# Altium integrated library Silicon Labs Audio.IntLib: 141 symbols (part 6 of 7)
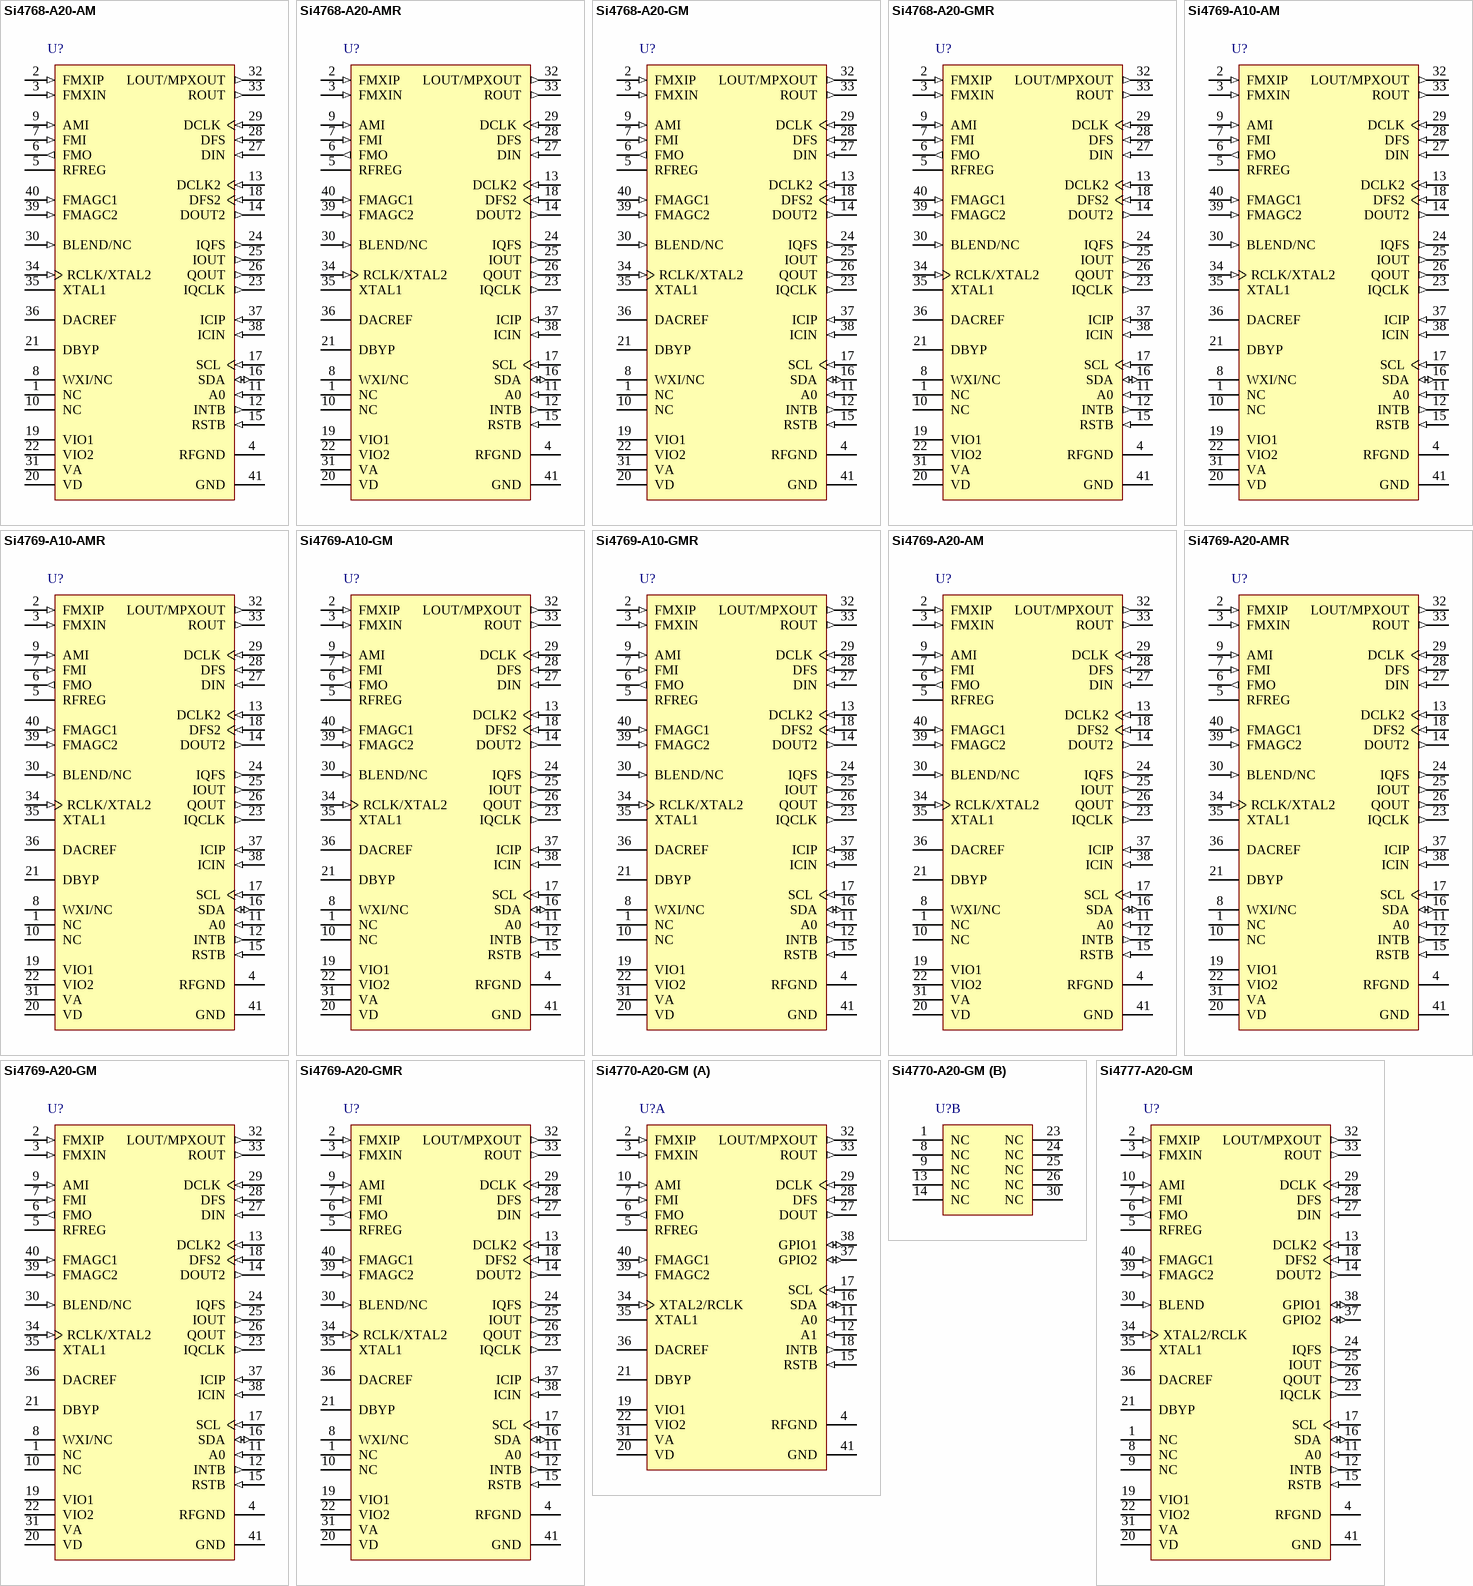
[diagram p12: symbols Si4768-A20-AM to Si4777-A20-GM]

## Si4777-A20-GM
designator U?
High-Performance Consumer Electronics Broadcast Radio Receiver and HD Radio Tuner, -40 to 85 degC, 40-pin QFN, Tray; Manufacturer: Silicon Labs; PartNumber: Si4777-A20-GM; RDS Support: TRUE; Sub-Family: AM/FM, Shortwave, Longwave, Weather Band Receivers; DatasheetVersion: Rev. 0.9; PackageVersion: Rev. 1.3, 01/2012; PackageReference: QFN-40; PackageDescription: 40-Pin Quad-Flat No-Leads Package, Body 6 x 6 mm, Pitch 0.5 mm; Supplier 1: Digi-Key; Supplier Part Number 1: 336-2266-ND; Supplier 2: Mouser; Supplier Part Number 2: 634-SI4777-A20-GM; Mounting Technology: Surface Mount; Code_JEDEC: MO-220; Code_IPC: J-STD-020; ComponentLink1Description: Manufacturer URL; ComponentLink1URL: http://www.silabs.com/; ComponentLink2Description: Datasheet; ComponentLink2URL: http://www.silabs.com/Support Documents/TechnicalDocs/Si4770-77-A20.pdf; ComponentLink3Description: Package Specification; ComponentLink3URL: http://www.silabs.com/Support%20Documents/TechnicalDocs/Si3452.pdf
footprint SLAB-QFN-40-4100x4100TP_A_N (QFN, 40-Leads, Body 6x6mm, Pitch 0.5mm, Thermal Pad 4.1X4.1mm, IPC Medium Density)
footprint SLAB-QFN-40-4100x4100TP_A_L (QFN, 40-Leads, Body 6x6mm, Pitch 0.5mm, Thermal Pad 4.1X4.1mm, IPC High Density)
footprint SLAB-QFN-40-4100x4100TP_A_M (QFN, 40-Leads, Body 6x6mm, Pitch 0.5mm, Thermal Pad 4.1X4.1mm, IPC Low Density)
pins: 1 NC "No connect: Leave floating", 2 FMXIP (in) "Balanced input to FM mixer (positive)", 3 FMXIN (in) "Balanced input to FM mixer (negative)", 4 RFGND (power) "RF Ground", 5 RFREG (power) "FM LNA regulator", 6 FMO (out) "FM LNA output", 7 FMI (in) "FM LNA input", 8 NC "No connect: Leave floating", 9 NC "No connect: Leave floating", 10 AMI (in) "AM single-ended input", 11 A0 (in) "I2C Address 0", 12 INTB (out) "Interrupt active low (Si4777 for IBOC blend mode)", 13 DCLK2 (in) "Digital audio bit clock input (Si4777 for IBOC blend mode)", 14 DOUT2 (out) "Digital audio output (Si4777 for IBOC blend mode)", 15 RSTB (in) "Global Chip Reset", 16 SDA (io) "I2C Data input/output", 17 SCL (in) "I2C clock", 18 DFS2 (in) "Digital audio bit clock input (Si4777 for IBOC blend mode)", 19 VIO1 (power) "Host I/O Supply Voltage (all pads except digital audio and I/Q)", 20 VD (power) "Digital Voltage Supply", 21 DBYP "Digital bypass to Ground", 22 VIO2 (power) "Digital audio and I/Q interface supply voltage", 23 IQCLK (out) "ZIF I/Q bit clock output (Si4777)", 24 IQFS (out) "ZIF I/Q frame sync output Si4777)", 25 IOUT (out) "ZIF I data output (Si4777)", 26 QOUT (out) "ZIF Q data output (Si4777)", 27 DIN (in) "Digital audio data input (Si4777 for IBOC blend mode)", 28 DFS (in) "Digital audio frame sync input", 29 DCLK (in) "Digital audio bit clock input", 30 BLEND (in) "Blend Flag Control", 31 VA (power) "Analog Voltage Supply", 32 LOUT/MPXOUT (out) "Left audio line out / FM MPX output", 33 ROUT (out) "Right audio line out", 34 XTAL2/RCLK (in) "Crystal oscillator input/Reference clock input", 35 XTAL1 "Crystal oscillator output", 36 DACREF "Voltage Reference for analog outputs", 37 GPIO2 (io) "General-purpose input/output", 38 GPIO1 (io) "General-purpose input/output", 39 FMAGC2 (in) "FM automatic gain control 2", 40 FMAGC1 (in) "FM automatic gain control 1", 41 GND (power) "Ground. Reference ground"

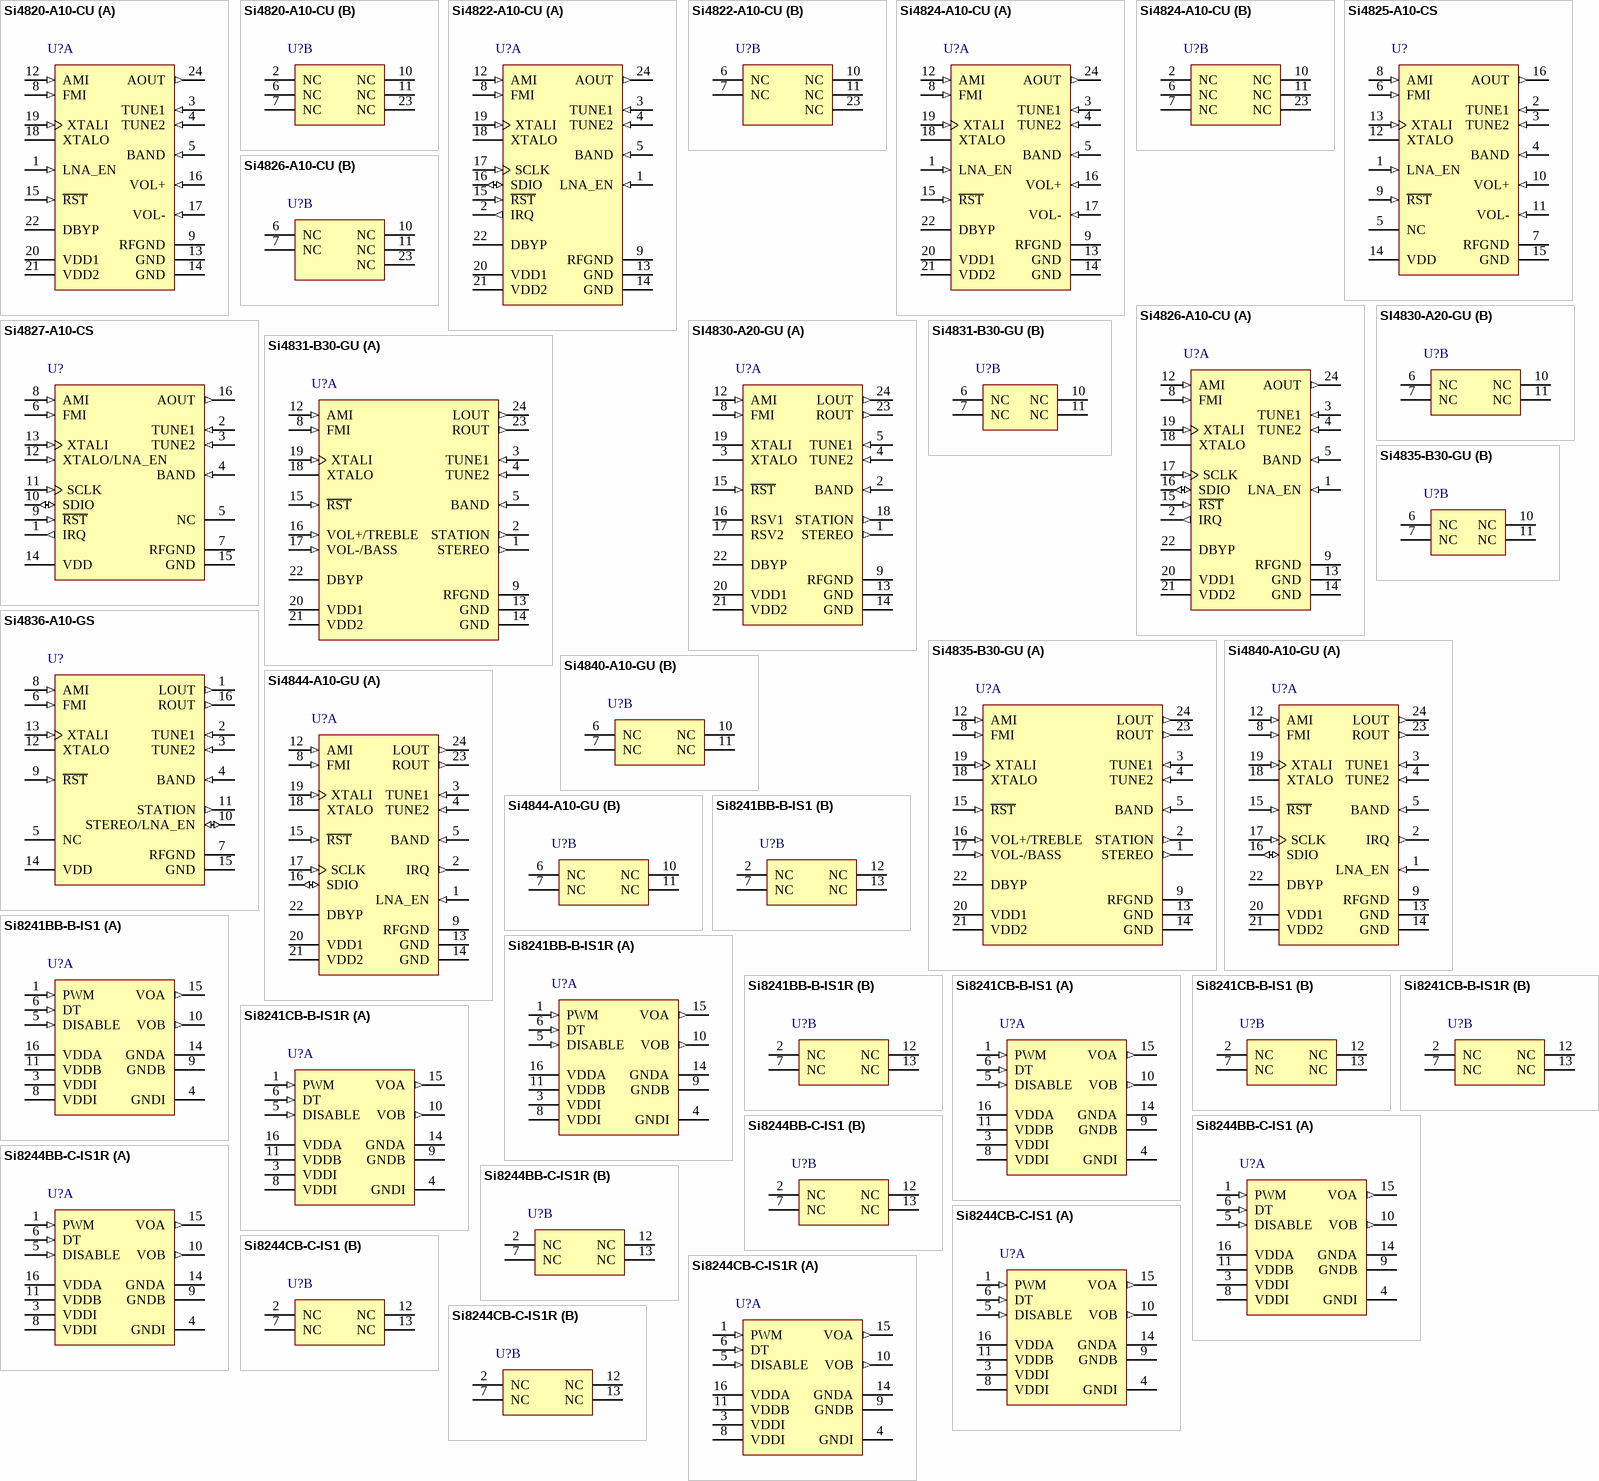
[diagram p7: symbols Si4820-A10-CU to Si8244CB-C-IS1R]

## Si4820-A10-CU
designator U?
Broadcast Mechanical Tuning AM / FM / SW Radio Receiver, 0 to 70 degC, 24-pin SOP, Tray; Manufacturer: Silicon Labs; PartNumber: Si4820-A10-CU; RDS Support: FALSE; Sub-Family: AM/FM, Shortwave, Longwave, Weather Band Receivers; DatasheetVersion: Rev. 1.0; PackageReference: SSOP-24; PackageDescription: 24-Pin Shrink Small-Outline Package, Body 8.65 x 3.9 mm, Pitch 0.635 mm; Supplier 1: Digi-Key; Supplier Part Number 1: SI4820-A10-CU-ND; Supplier 2: Mouser; Supplier Part Number 2: 634-SI4820-A10-CU; Mounting Technology: Surface Mount; Code_JEDEC: MO-137; Code_IPC: J-STD-020; ComponentLink1Description: Manufacturer URL; ComponentLink1URL: http://www.silabs.com/; ComponentLink2Description: Datasheet; ComponentLink2URL: http://www.silabs.com/Support Documents/TechnicalDocs/Si4820-24-A10.pdf; ComponentLink3Description: Package Specification; ComponentLink3URL: http://www.silabs.com/Support%20Documents/TechnicalDocs/Si4704-05-D60.pdf
footprint SLAB-SSOP-24_N (SOP, 24-Leads, Body 8.7x3.9mm, Pitch 0.635mm, IPC Medium Density)
footprint SLAB-SSOP-24_L (SOP, 24-Leads, Body 8.7x3.9mm, Pitch 0.635mm, IPC High Density)
footprint SLAB-SSOP-24_M (SOP, 24-Leads, Body 8.7x3.9mm, Pitch 0.635mm, IPC Low Density)
part A pins: 1 LNA_EN (in) "Enable SW external LNA for Si4824", 3 TUNE1 (in) "Frequency tuning", 4 TUNE2 (in) "Frequency tuning", 5 BAND (in) "Band selection and de-emphasis selection", 8 FMI (in) "FM RF inputs. FMI should be connected to the antenna trace.", 9 RFGND (power) "RF ground. Connect to ground plane on PCB.", 12 AMI (in) "AM RF input. AMI should be connected to the AM antenna.", 13 GND (power) "Ground. Connect to ground plane on PCB.", 14 GND (power) "Ground. Connect to ground plane on PCB.", 15 ~{RST} (in) "Device reset (active low) input", 16 VOL+ (in) "Volume button up", 17 VOL- (in) "Volume button down", 18 XTALO "Crystal oscillator output", 19 XTALI (in) "Crystal oscillator input", 20 VDD1 (power) "Supply voltage. May be connected directly to battery.", 21 VDD2 (power) "Supply voltage. May be connected directly to battery.", 22 DBYP "Dedicated bypass for VDD", 24 AOUT (out) "Audio output"
part B pins: 2 NC "No connect", 6 NC "No connect. Leave floating.", 7 NC "No connect. Leave floating.", 10 NC "Unused. Tie these pins to GND.", 11 NC "Unused. Tie these pins to GND.", 23 NC "No connect. Leave floating"

## Si4822-A10-CU
designator U?
Broadcast Analog Tuning Digital Display AM / FM / SW Radio Receiver, 0 to 70 degC, 24-pin SOP, Tray; Manufacturer: Silicon Labs; PartNumber: Si4822-A10-CU; RDS Support: FALSE; Sub-Family: AM/FM, Shortwave, Longwave, Weather Band Receivers; DatasheetVersion: Rev. 1.0; PackageReference: SSOP-24; PackageDescription: 24-Pin Shrink Small-Outline Package, Body 8.65 x 3.9 mm, Pitch 0.635 mm; Supplier 1: Digi-Key; Supplier Part Number 1: SI4822-A10-CU-ND; Supplier 2: Mouser; Supplier Part Number 2: 634-SI4822-A10-CU; Mounting Technology: Surface Mount; Code_JEDEC: MO-137; Code_IPC: J-STD-020; ComponentLink1Description: Manufacturer URL; ComponentLink1URL: http://www.silabs.com/; ComponentLink2Description: Datasheet; ComponentLink2URL: http://www.silabs.com/Support Documents/TechnicalDocs/Si4822-26-A10.pdf; ComponentLink3Description: Package Specification; ComponentLink3URL: http://www.silabs.com/Support%20Documents/TechnicalDocs/Si4704-05-D60.pdf
footprint SLAB-SSOP-24_N (SOP, 24-Leads, Body 8.7x3.9mm, Pitch 0.635mm, IPC Medium Density)
footprint SLAB-SSOP-24_L (SOP, 24-Leads, Body 8.7x3.9mm, Pitch 0.635mm, IPC High Density)
footprint SLAB-SSOP-24_M (SOP, 24-Leads, Body 8.7x3.9mm, Pitch 0.635mm, IPC Low Density)
part A pins: 1 LNA_EN (in) "Enabling SW external LNA for Si4826", 2 IRQ (out) "Interrupt Request", 3 TUNE1 (in) "Frequency tuning", 4 TUNE2 (in) "Frequency tuning", 5 BAND (in) "Band selection and de-emphasis selection", 8 FMI (in) "FM RF inputs. FMI should be connected to the antenna trace.", 9 RFGND (power) "RF ground. Connect to ground plane on PCB.", 12 AMI (in) "AM RF input. AMI should be connected to the AM antenna.", 13 GND (power) "Ground. Connect to ground plane on PCB.", 14 GND (power) "Ground. Connect to ground plane on PCB.", 15 ~{RST} (in) "Device reset (active low) input", 16 SDIO (io) "Serial data input/output", 17 SCLK (in) "Serial clock input", 18 XTALO "Crystal oscillator output", 19 XTALI (in) "Crystal oscillator input", 20 VDD1 (power) "Supply voltage. May be connected directly to battery.", 21 VDD2 (power) "Supply voltage. May be connected directly to battery.", 22 DBYP "Dedicated bypass for VDD", 24 AOUT (out) "Audio output"
part B pins: 6 NC "No connect. Leave floating.", 7 NC "No connect. Leave floating.", 10 NC "Unused. Tie these pins to GND.", 11 NC "Unused. Tie these pins to GND.", 23 NC "No connect. Leave floating."

## Si4824-A10-CU
designator U?
Broadcast Mechanical Tuning AM / FM / SW Radio Receiver, 0 to 70 degC, 24-pin SOP, Tray; Manufacturer: Silicon Labs; PartNumber: Si4824-A10-CU; RDS Support: FALSE; Sub-Family: AM/FM, Shortwave, Longwave, Weather Band Receivers; DatasheetVersion: Rev. 1.0; PackageReference: SSOP-24; PackageDescription: 24-Pin Shrink Small-Outline Package, Body 8.65 x 3.9 mm, Pitch 0.635 mm; Supplier 1: Digi-Key; Supplier Part Number 1: SI4824-A10-CU-ND; Supplier 2: Mouser; Supplier Part Number 2: 634-SI4824-A10-CU; Mounting Technology: Surface Mount; Code_JEDEC: MO-137; Code_IPC: J-STD-020; ComponentLink1Description: Manufacturer URL; ComponentLink1URL: http://www.silabs.com/; ComponentLink2Description: Datasheet; ComponentLink2URL: http://www.silabs.com/Support Documents/TechnicalDocs/Si4820-24-A10.pdf; ComponentLink3Description: Package Specification; ComponentLink3URL: http://www.silabs.com/Support%20Documents/TechnicalDocs/Si4704-05-D60.pdf
footprint SLAB-SSOP-24_N (SOP, 24-Leads, Body 8.7x3.9mm, Pitch 0.635mm, IPC Medium Density)
footprint SLAB-SSOP-24_L (SOP, 24-Leads, Body 8.7x3.9mm, Pitch 0.635mm, IPC High Density)
footprint SLAB-SSOP-24_M (SOP, 24-Leads, Body 8.7x3.9mm, Pitch 0.635mm, IPC Low Density)
part A pins: 1 LNA_EN (in) "Enable SW external LNA for Si4824", 3 TUNE1 (in) "Frequency tuning", 4 TUNE2 (in) "Frequency tuning", 5 BAND (in) "Band selection and de-emphasis selection", 8 FMI (in) "FM RF inputs. FMI should be connected to the antenna trace.", 9 RFGND (power) "RF ground. Connect to ground plane on PCB.", 12 AMI (in) "AM RF input. AMI should be connected to the AM antenna.", 13 GND (power) "Ground. Connect to ground plane on PCB.", 14 GND (power) "Ground. Connect to ground plane on PCB.", 15 ~{RST} (in) "Device reset (active low) input", 16 VOL+ (in) "Volume button up", 17 VOL- (in) "Volume button down", 18 XTALO "Crystal oscillator output", 19 XTALI (in) "Crystal oscillator input", 20 VDD1 (power) "Supply voltage. May be connected directly to battery.", 21 VDD2 (power) "Supply voltage. May be connected directly to battery.", 22 DBYP "Dedicated bypass for VDD", 24 AOUT (out) "Audio output"
part B pins: 2 NC "No connect", 6 NC "No connect. Leave floating.", 7 NC "No connect. Leave floating.", 10 NC "Unused. Tie these pins to GND.", 11 NC "Unused. Tie these pins to GND.", 23 NC "No connect. Leave floating"

## Si4825-A10-CS
designator U?
Broadcast Mechanical Tuning AM / FM / SW Radio Receiver, 0 to 70 degC, 16-pin SOIC, Tube; Manufacturer: Silicon Labs; PartNumber: Si4825-A10-CS; RDS Support: FALSE; Sub-Family: AM/FM, Shortwave, Longwave, Weather Band Receivers; DatasheetVersion: Rev. 1.0; PackageReference: SOIC-16-NB; PackageDescription: 16-Pin Small-Outline Integrated Circuit, Body 9.9 x 3.9 mm, Pitch 1.27 mm; Supplier 1: Digi-Key; Supplier Part Number 1: SI4825-A10-CS-ND; Supplier 2: Mouser; Supplier Part Number 2: 634-SI4825-A10-CS; Mounting Technology: Surface Mount; Code_JEDEC: MS-012; Code_IPC: J-STD-020; ComponentLink1Description: Manufacturer URL; ComponentLink1URL: http://www.silabs.com/; ComponentLink2Description: Datasheet; ComponentLink2URL: http://www.silabs.com/Support Documents/TechnicalDocs/Si4825-A10.pdf; ComponentLink3Description: Package Specification; ComponentLink3URL: http://www.silabs.com/Support%20Documents/TechnicalDocs/si2401.pdf
footprint SLAB-SOIC-16-NB_N (SOIC, 16-Leads, Body 9.9x3.9mm, Pitch 1.27mm, IPC Medium Density)
footprint SLAB-SOIC-16-NB_L (SOIC, 16-Leads, Body 9.9x3.9mm, Pitch 1.27mm, IPC High Density)
footprint SLAB-SOIC-16-NB_M (SOIC, 16-Leads, Body 9.9x3.9mm, Pitch 1.27mm, IPC Low Density)
pins: 1 LNA_EN (in) "Enable SW external LNA.", 2 TUNE1 (in) "Frequency tuning", 3 TUNE2 (in) "Frequency tuning", 4 BAND (in) "Band selection and de-emphasis selection", 5 NC "No connect. Leave floating.", 6 FMI (in) "FM RF inputs. FMI should be connected to the antenna trace.", 7 RFGND (power) "RF ground. Connect to ground plane on PCB.", 8 AMI (in) "AM RF input. AMI should be connected to the AM antenna.", 9 ~{RST} (in) "Device reset (active low) input", 10 VOL+ (in) "Volume button up", 11 VOL- (in) "Volume button down", 12 XTALO "Crystal oscillator output", 13 XTALI (in) "Crystal oscillator input/external reference clock input", 14 VDD (power) "Supply voltage. May be connected directly to battery.", 15 GND (power) "Ground. Connect to ground plane on PCB.", 16 AOUT (out) "Audio output"

## Si4826-A10-CU
designator U?
Broadcast Analog Tuning Digital Display AM / FM / SW Radio Receiver, 0 to 70 degC, 24-pin SOP, Tray; Manufacturer: Silicon Labs; PartNumber: Si4826-A10-CU; RDS Support: FALSE; Sub-Family: AM/FM, Shortwave, Longwave, Weather Band Receivers; DatasheetVersion: Rev. 1.0; PackageReference: SSOP-24; PackageDescription: 24-Pin Shrink Small-Outline Package, Body 8.65 x 3.9 mm, Pitch 0.635 mm; Supplier 1: Digi-Key; Supplier Part Number 1: SI4826-A10-CU-ND; Supplier 2: Mouser; Supplier Part Number 2: 634-SI4826-A10-CU; Mounting Technology: Surface Mount; Code_JEDEC: MO-137; Code_IPC: J-STD-020; ComponentLink1Description: Manufacturer URL; ComponentLink1URL: http://www.silabs.com/; ComponentLink2Description: Datasheet; ComponentLink2URL: http://www.silabs.com/Support Documents/TechnicalDocs/Si4822-26-A10.pdf; ComponentLink3Description: Package Specification; ComponentLink3URL: http://www.silabs.com/Support%20Documents/TechnicalDocs/Si4704-05-D60.pdf
footprint SLAB-SSOP-24_N (SOP, 24-Leads, Body 8.7x3.9mm, Pitch 0.635mm, IPC Medium Density)
footprint SLAB-SSOP-24_L (SOP, 24-Leads, Body 8.7x3.9mm, Pitch 0.635mm, IPC High Density)
footprint SLAB-SSOP-24_M (SOP, 24-Leads, Body 8.7x3.9mm, Pitch 0.635mm, IPC Low Density)
part A pins: 1 LNA_EN (in) "Enabling SW external LNA for Si4826", 2 IRQ (out) "Interrupt Request", 3 TUNE1 (in) "Frequency tuning", 4 TUNE2 (in) "Frequency tuning", 5 BAND (in) "Band selection and de-emphasis selection", 8 FMI (in) "FM RF inputs. FMI should be connected to the antenna trace.", 9 RFGND (power) "RF ground. Connect to ground plane on PCB.", 12 AMI (in) "AM RF input. AMI should be connected to the AM antenna.", 13 GND (power) "Ground. Connect to ground plane on PCB.", 14 GND (power) "Ground. Connect to ground plane on PCB.", 15 ~{RST} (in) "Device reset (active low) input", 16 SDIO (io) "Serial data input/output", 17 SCLK (in) "Serial clock input", 18 XTALO "Crystal oscillator output", 19 XTALI (in) "Crystal oscillator input", 20 VDD1 (power) "Supply voltage. May be connected directly to battery.", 21 VDD2 (power) "Supply voltage. May be connected directly to battery.", 22 DBYP "Dedicated bypass for VDD", 24 AOUT (out) "Audio output"
part B pins: 6 NC "No connect. Leave floating.", 7 NC "No connect. Leave floating.", 10 NC "Unused. Tie these pins to GND.", 11 NC "Unused. Tie these pins to GND.", 23 NC "No connect. Leave floating."

## Si4827-A10-CS
designator U?
Broadcast Analog Tuning Digital Display AM / FM / SW Radio Receiver, 0 to 70 degC, 16-pin SOIC, Tube; Manufacturer: Silicon Labs; PartNumber: Si4827-A10-CS; RDS Support: FALSE; Sub-Family: AM/FM, Shortwave, Longwave, Weather Band Receivers; DatasheetVersion: Rev. 1.0; PackageReference: SOIC-16-NB; PackageDescription: 16-Pin Small-Outline Integrated Circuit, Body 9.9 x 3.9 mm, Pitch 1.27 mm; Supplier 1: Digi-Key; Supplier Part Number 1: SI4827-A10-CS-ND; Supplier 2: Mouser; Supplier Part Number 2: 634-SI4827-A10-CS; Mounting Technology: Surface Mount; Code_JEDEC: MS-012; Code_IPC: J-STD-020; ComponentLink1Description: Manufacturer URL; ComponentLink1URL: http://www.silabs.com/; ComponentLink2Description: Datasheet; ComponentLink2URL: http://www.silabs.com/Support Documents/TechnicalDocs/Si4827-A10.pdf; ComponentLink3Description: Package Specification; ComponentLink3URL: http://www.silabs.com/Support%20Documents/TechnicalDocs/si2401.pdf
footprint SLAB-SOIC-16-NB_N (SOIC, 16-Leads, Body 9.9x3.9mm, Pitch 1.27mm, IPC Medium Density)
footprint SLAB-SOIC-16-NB_L (SOIC, 16-Leads, Body 9.9x3.9mm, Pitch 1.27mm, IPC High Density)
footprint SLAB-SOIC-16-NB_M (SOIC, 16-Leads, Body 9.9x3.9mm, Pitch 1.27mm, IPC Low Density)
pins: 1 IRQ (out) "Interrupt request.", 2 TUNE1 (in) "Frequency tuning.", 3 TUNE2 (in) "Frequency tuning.", 4 BAND (in) "Band selection and de-emphasis selection.", 5 NC "No connect. Leave floating.", 6 FMI (in) "FM RF inputs. FMI should be connected to the antenna trace.", 7 RFGND (power) "RF ground. Connect to ground plane on PCB.", 8 AMI (in) "AM RF input. AMI should be connected to the AM antenna.", 9 ~{RST} (in) "Device reset (active low) input.", 10 SDIO (io) "Serial data input/output.", 11 SCLK (in) "Serial clock input.", 12 XTALO/LNA_EN (in) "Crystal oscillator output, enable the SW external LNA in SW mode when not used as XTALO.", 13 XTALI (in) "Crystal oscillator input/external reference clock input", 14 VDD (power) "Supply voltage. May be connected directly to battery.", 15 GND (power) "Ground. Connect to ground plane on PCB.", 16 AOUT (out) "Audio output."

## SI4830-A20-GU
designator U?
Broadcast Mechanical Tuning AM / FM Radio Receiver, 24-pin SOP, Tray; Manufacturer: Silicon Labs; PartNumber: SI4830-A20-GU; RDS Support: FALSE; Sub-Family: AM/FM, Shortwave, Longwave, Weather Band Receivers; PackageReference: SSOP-24; PackageDescription: 24-Pin Shrink Small-Outline Package, Body 8.65 x 3.9 mm, Pitch 0.635 mm; Supplier 1: Digi-Key; Supplier Part Number 1: SI4830-A20-GU-ND; Mounting Technology: Surface Mount; Code_JEDEC: MO-137; Code_IPC: J-STD-020; ComponentLink1Description: Manufacturer URL; ComponentLink1URL: http://www.silabs.com/; ComponentLink2Description: Datasheet; ComponentLink2URL: http://www.silabs.com/Support Documents/TechnicalDocs/Si4830-short.pdf; ComponentLink3Description: Package Specification; ComponentLink3URL: http://www.silabs.com/Support%20Documents/TechnicalDocs/Si4704-05-D60.pdf
footprint SLAB-SSOP-24_N (SOP, 24-Leads, Body 8.7x3.9mm, Pitch 0.635mm, IPC Medium Density)
footprint SLAB-SSOP-24_L (SOP, 24-Leads, Body 8.7x3.9mm, Pitch 0.635mm, IPC High Density)
footprint SLAB-SSOP-24_M (SOP, 24-Leads, Body 8.7x3.9mm, Pitch 0.635mm, IPC Low Density)
part A pins: 1 STEREO (out), 2 BAND (in), 3 XTALO, 4 TUNE2 (in), 5 TUNE1 (in), 8 FMI (in), 9 RFGND (power), 12 AMI (in), 13 GND (power), 14 GND (power), 15 ~{RST} (in), 16 RSV1, 17 RSV2, 18 STATION (out), 19 XTALI, 20 VDD1 (power), 21 VDD2 (power), 22 DBYP, 23 ROUT (out), 24 LOUT (out)
part B pins: 6 NC, 7 NC, 10 NC, 11 NC

## Si4831-B30-GU
designator U?
Broadcast Mechanical Tuning AM / FM / SW Radio Receiver, -15 to 85 degC, 24-pin SOP, Tray; Manufacturer: Silicon Labs; PartNumber: Si4831-B30-GU; RDS Support: FALSE; Sub-Family: AM/FM, Shortwave, Longwave, Weather Band Receivers; DatasheetVersion: Rev. 1.0; PackageReference: SSOP-24; PackageDescription: 24-Pin Shrink Small-Outline Package, Body 8.65 x 3.9 mm, Pitch 0.635 mm; Supplier 1: Digi-Key; Supplier Part Number 1: SI4831-B30-GU-ND; Supplier 2: Mouser; Supplier Part Number 2: 634-SI4831-B30-GU; Mounting Technology: Surface Mount; Code_JEDEC: MO-137; Code_IPC: J-STD-020; ComponentLink1Description: Manufacturer URL; ComponentLink1URL: http://www.silabs.com/; ComponentLink2Description: Datasheet; ComponentLink2URL: http://www.silabs.com/Support Documents/TechnicalDocs/Si4831-35-B30.pdf; ComponentLink3Description: Package Specification; ComponentLink3URL: http://www.silabs.com/Support%20Documents/TechnicalDocs/Si4704-05-D60.pdf
footprint SLAB-SSOP-24_N (SOP, 24-Leads, Body 8.7x3.9mm, Pitch 0.635mm, IPC Medium Density)
footprint SLAB-SSOP-24_L (SOP, 24-Leads, Body 8.7x3.9mm, Pitch 0.635mm, IPC High Density)
footprint SLAB-SSOP-24_M (SOP, 24-Leads, Body 8.7x3.9mm, Pitch 0.635mm, IPC Low Density)
part A pins: 1 STEREO (out) "Stereo indicator", 2 STATION (out) "Station indicator", 3 TUNE1 (in) "Frequency tuning", 4 TUNE2 (in) "Frequency tuning", 5 BAND (in) "Band selection and De-emphasis/Stereo separation selection", 8 FMI (in) "FM RF inputs. FMI should be connected to the antenna trace.", 9 RFGND (power) "RF ground. Connect to ground plane on PCB.", 12 AMI (in) "AM RF input. AMI should be connected to the AM antenna.", 13 GND (power) "Ground. Connect to ground plane on PCB.", 14 GND (power) "Ground. Connect to ground plane on PCB.", 15 ~{RST} (in) "Device reset (active low) input", 16 VOL+/TREBLE (in) "Volume button up/Treble", 17 VOL-/BASS (in) "Volume button down/Bass", 18 XTALO "Crystal oscillator output", 19 XTALI (in) "Crystal oscillator input", 20 VDD1 (power) "Supply voltage. May be connected directly to battery.", 21 VDD2 (power) "Supply voltage. May be connected directly to battery.", 22 DBYP "Dedicated bypass for VDD", 23 ROUT (out) "Right audio line output in analog output mode", 24 LOUT (out) "Left audio line output in analog output mode"
part B pins: 6 NC "No connect. Leave floating.", 7 NC "No connect. Leave floating.", 10 NC "Unused. Tie these pins to GND.", 11 NC "Unused. Tie these pins to GND."

## Si4835-B30-GU
designator U?
Broadcast Mechanical Tuning AM / FM / SW Radio Receiver, -15 to 85 degC, 24-pin SOP, Tray; Manufacturer: Silicon Labs; PartNumber: Si4835-B30-GU; RDS Support: FALSE; Sub-Family: AM/FM, Shortwave, Longwave, Weather Band Receivers; DatasheetVersion: Rev. 1.0; PackageReference: SSOP-24; PackageDescription: 24-Pin Shrink Small-Outline Package, Body 8.65 x 3.9 mm, Pitch 0.635 mm; Supplier 1: Digi-Key; Supplier Part Number 1: SI4835-B30-GU-ND; Supplier 2: Mouser; Supplier Part Number 2: 634-SI4835-B30-GU; Mounting Technology: Surface Mount; Code_JEDEC: MO-137; Code_IPC: J-STD-020; ComponentLink1Description: Manufacturer URL; ComponentLink1URL: http://www.silabs.com/; ComponentLink2Description: Datasheet; ComponentLink2URL: http://www.silabs.com/Support Documents/TechnicalDocs/Si4831-35-B30.pdf; ComponentLink3Description: Package Specification; ComponentLink3URL: http://www.silabs.com/Support%20Documents/TechnicalDocs/Si4704-05-D60.pdf
footprint SLAB-SSOP-24_N (SOP, 24-Leads, Body 8.7x3.9mm, Pitch 0.635mm, IPC Medium Density)
footprint SLAB-SSOP-24_L (SOP, 24-Leads, Body 8.7x3.9mm, Pitch 0.635mm, IPC High Density)
footprint SLAB-SSOP-24_M (SOP, 24-Leads, Body 8.7x3.9mm, Pitch 0.635mm, IPC Low Density)
part A pins: 1 STEREO (out) "Stereo indicator", 2 STATION (out) "Station indicator", 3 TUNE1 (in) "Frequency tuning", 4 TUNE2 (in) "Frequency tuning", 5 BAND (in) "Band selection and De-emphasis/Stereo separation selection", 8 FMI (in) "FM RF inputs. FMI should be connected to the antenna trace.", 9 RFGND (power) "RF ground. Connect to ground plane on PCB.", 12 AMI (in) "AM RF input. AMI should be connected to the AM antenna.", 13 GND (power) "Ground. Connect to ground plane on PCB.", 14 GND (power) "Ground. Connect to ground plane on PCB.", 15 ~{RST} (in) "Device reset (active low) input", 16 VOL+/TREBLE (in) "Volume button up/Treble", 17 VOL-/BASS (in) "Volume button down/Bass", 18 XTALO "Crystal oscillator output", 19 XTALI (in) "Crystal oscillator input", 20 VDD1 (power) "Supply voltage. May be connected directly to battery.", 21 VDD2 (power) "Supply voltage. May be connected directly to battery.", 22 DBYP "Dedicated bypass for VDD", 23 ROUT (out) "Right audio line output in analog output mode", 24 LOUT (out) "Left audio line output in analog output mode"
part B pins: 6 NC "No connect. Leave floating.", 7 NC "No connect. Leave floating.", 10 NC "Unused. Tie these pins to GND.", 11 NC "Unused. Tie these pins to GND."

## Si4836-A10-GS
designator U?
Broadcast Mechanical Tuning AM / FM / SW Radio Receiver, -15 to 85 degC, 16-pin SOIC, Tube; Manufacturer: Silicon Labs; PartNumber: Si4836-A10-GS; RDS Support: FALSE; Sub-Family: AM/FM, Shortwave, Longwave, Weather Band Receivers; DatasheetVersion: Rev. 1.0; PackageReference: SOIC-16-NB; PackageDescription: 16-Pin Small-Outline Integrated Circuit, Body 9.9 x 3.9 mm, Pitch 1.27 mm; Supplier 1: Digi-Key; Supplier Part Number 1: SI4836-A10-GS-ND; Supplier 2: Mouser; Supplier Part Number 2: 634-SI4836-A10-GS; Mounting Technology: Surface Mount; Code_JEDEC: MS-012; Code_IPC: J-STD-020; ComponentLink1Description: Manufacturer URL; ComponentLink1URL: http://www.silabs.com/; ComponentLink2Description: Datasheet; ComponentLink2URL: http://www.silabs.com/Support Documents/TechnicalDocs/Si4836-A10.pdf; ComponentLink3Description: Package Specification; ComponentLink3URL: http://www.silabs.com/Support%20Documents/TechnicalDocs/si2401.pdf
footprint SLAB-SOIC-16-NB_N (SOIC, 16-Leads, Body 9.9x3.9mm, Pitch 1.27mm, IPC Medium Density)
footprint SLAB-SOIC-16-NB_L (SOIC, 16-Leads, Body 9.9x3.9mm, Pitch 1.27mm, IPC High Density)
footprint SLAB-SOIC-16-NB_M (SOIC, 16-Leads, Body 9.9x3.9mm, Pitch 1.27mm, IPC Low Density)
pins: 1 LOUT (out) "Left audio output", 2 TUNE1 (in) "Frequency tuning", 3 TUNE2 (in) "Frequency tuning", 4 BAND (in) "Band selection and de-emphasis selection", 5 NC "No connect. Leave floating.", 6 FMI (in) "FM RF inputs. FMI should be connected to the antenna trace.", 7 RFGND (power) "RF ground. Connect to ground plane on PCB.", 8 AMI (in) "AM RF input. AMI should be connected to the AM antenna.", 9 ~{RST} (in) "Device reset (active low) input", 10 STEREO/LNA_EN (io) "Stereo indicator, enable the SW external LNA in SW mode.", 11 STATION (out) "Station indicator", 12 XTALO "Crystal oscillator output", 13 XTALI (in) "Crystal oscillator input/external reference clock input", 14 VDD (power) "Supply voltage. May be connected directly to battery.", 15 GND (power) "Ground. Connect to ground plane on PCB.", 16 ROUT (out) "Right audio output"

## Si4840-A10-GU
designator U?
Broadcast Analog Tuning Digital Display AM / FM / SW Radio Receiver, -15 to 85 degC, 24-pin SOP, Tube; Manufacturer: Silicon Labs; PartNumber: Si4840-A10-GU; RDS Support: FALSE; Sub-Family: AM/FM, Shortwave, Longwave, Weather Band Receivers; DatasheetVersion: Rev. 1.0; PackageReference: SSOP-24; PackageDescription: 24-Pin Shrink Small-Outline Package, Body 8.65 x 3.9 mm, Pitch 0.635 mm; Supplier 1: Digi-Key; Supplier Part Number 1: 336-2153-ND; Supplier 2: Mouser; Supplier Part Number 2: 634-SI4840-A10-GU; Mounting Technology: Surface Mount; Code_JEDEC: MO-137; Code_IPC: J-STD-020; ComponentLink1Description: Manufacturer URL; ComponentLink1URL: http://www.silabs.com/; ComponentLink2Description: Datasheet; ComponentLink2URL: http://www.silabs.com/Support Documents/TechnicalDocs/Si4840-44-A10.pdf; ComponentLink3Description: Package Specification; ComponentLink3URL: http://www.silabs.com/Support%20Documents/TechnicalDocs/Si4704-05-D60.pdf
footprint SLAB-SSOP-24_N (SOP, 24-Leads, Body 8.7x3.9mm, Pitch 0.635mm, IPC Medium Density)
footprint SLAB-SSOP-24_L (SOP, 24-Leads, Body 8.7x3.9mm, Pitch 0.635mm, IPC High Density)
footprint SLAB-SSOP-24_M (SOP, 24-Leads, Body 8.7x3.9mm, Pitch 0.635mm, IPC Low Density)
part A pins: 1 LNA_EN (in) "Enabling SW external LNA", 2 IRQ (out) "Interrupt Request", 3 TUNE1 (in) "Frequency tuning", 4 TUNE2 (in) "Frequency tuning", 5 BAND (in) "Band selection and De-emphasis/Stereo separation selection", 8 FMI (in) "FM RF inputs. FMI should be connected to the antenna trace.", 9 RFGND (power) "RF ground. Connect to ground plane on PCB.", 12 AMI (in) "AM RF input. AMI should be connected to the AM antenna.", 13 GND (power) "Ground. Connect to ground plane on PCB.", 14 GND (power) "Ground. Connect to ground plane on PCB.", 15 ~{RST} (in) "Device reset (active low) input", 16 SDIO (io) "Serial data input/output", 17 SCLK (in) "Serial clock input", 18 XTALO "Crystal oscillator output", 19 XTALI (in) "Crystal oscillator input", 20 VDD1 (power) "Supply voltage. May be connected directly to battery.", 21 VDD2 (power) "Supply voltage. May be connected directly to battery.", 22 DBYP "Dedicated bypass for VDD", 23 ROUT (out) "Right audio line output in analog output mode", 24 LOUT (out) "Left audio line output in analog output mode"
part B pins: 6 NC "No connect. Leave floating.", 7 NC "No connect. Leave floating.", 10 NC "Unused. Tie these pins to GND.", 11 NC "Unused. Tie these pins to GND."

## Si4844-A10-GU
designator U?
Broadcast Analog Tuning Digital Display AM / FM / SW Radio Receiver, -15 to 85 degC, 24-pin SOP, Tray; Manufacturer: Silicon Labs; PartNumber: Si4844-A10-GU; RDS Support: FALSE; Sub-Family: AM/FM, Shortwave, Longwave, Weather Band Receivers; DatasheetVersion: Rev. 1.0; PackageReference: SSOP-24; PackageDescription: 24-Pin Shrink Small-Outline Package, Body 8.65 x 3.9 mm, Pitch 0.635 mm; Supplier 1: Digi-Key; Supplier Part Number 1: 336-2151-ND; Supplier 2: Mouser; Supplier Part Number 2: 634-SI4844-A10-GU; Mounting Technology: Surface Mount; Code_JEDEC: MO-137; Code_IPC: J-STD-020; ComponentLink1Description: Manufacturer URL; ComponentLink1URL: http://www.silabs.com/; ComponentLink2Description: Datasheet; ComponentLink2URL: http://www.silabs.com/Support Documents/TechnicalDocs/Si4840-44-A10.pdf; ComponentLink3Description: Package Specification; ComponentLink3URL: http://www.silabs.com/Support%20Documents/TechnicalDocs/Si4704-05-D60.pdf
footprint SLAB-SSOP-24_N (SOP, 24-Leads, Body 8.7x3.9mm, Pitch 0.635mm, IPC Medium Density)
footprint SLAB-SSOP-24_L (SOP, 24-Leads, Body 8.7x3.9mm, Pitch 0.635mm, IPC High Density)
footprint SLAB-SSOP-24_M (SOP, 24-Leads, Body 8.7x3.9mm, Pitch 0.635mm, IPC Low Density)
part A pins: 1 LNA_EN (in) "Enabling SW external LNA", 2 IRQ (out) "Interrupt Request", 3 TUNE1 (in) "Frequency tuning", 4 TUNE2 (in) "Frequency tuning", 5 BAND (in) "Band selection and De-emphasis/Stereo separation selection", 8 FMI (in) "FM RF inputs. FMI should be connected to the antenna trace.", 9 RFGND (power) "RF ground. Connect to ground plane on PCB.", 12 AMI (in) "AM RF input. AMI should be connected to the AM antenna.", 13 GND (power) "Ground. Connect to ground plane on PCB.", 14 GND (power) "Ground. Connect to ground plane on PCB.", 15 ~{RST} (in) "Device reset (active low) input", 16 SDIO (io) "Serial data input/output", 17 SCLK (in) "Serial clock input", 18 XTALO "Crystal oscillator output", 19 XTALI (in) "Crystal oscillator input", 20 VDD1 (power) "Supply voltage. May be connected directly to battery.", 21 VDD2 (power) "Supply voltage. May be connected directly to battery.", 22 DBYP "Dedicated bypass for VDD", 23 ROUT (out) "Right audio line output in analog output mode", 24 LOUT (out) "Left audio line output in analog output mode"
part B pins: 6 NC "No connect. Leave floating.", 7 NC "No connect. Leave floating.", 10 NC "Unused. Tie these pins to GND.", 11 NC "Unused. Tie these pins to GND."

## Si8241BB-B-IS1
designator U?
Class D Audio Driver with Precision Dead-Time Generator, -40 to 125 degC, 16-pin SOIC, Tube; Manufacturer: Silicon Labs; PartNumber: Si8241BB-B-IS1; Drive Strength: 0.5 A; Input Type: PWM; Isolation Rating: 2.5 kV rms; Outputs: High Side / Low Side; UVLO Voltage: 8 V; Sub-Family: Class D Audio Drivers; DatasheetVersion: Rev. 0.3; PackageReference: SOIC-16-NB; PackageDescription: 16-Pin Small-Outline Integrated Circuit, Body 9.9 x 3.9 mm, Pitch 1.27 mm; Supplier 1: Digi-Key; Supplier Part Number 1: 336-1999-5-ND; Supplier 2: Mouser; Supplier Part Number 2: 634-SI8241BB-B-IS1; Packing: Tube; Mounting Technology: Surface Mount; Code_JEDEC: MS-012; Code_IPC: J-STD-020; ComponentLink1Description: Manufacturer URL; ComponentLink1URL: http://www.silabs.com/; ComponentLink2Description: Datasheet; ComponentLink2URL: http://www.silabs.com/Support Documents/TechnicalDocs/Si824x.pdf; ComponentLink3Description: Package Specification; ComponentLink3URL: http://www.silabs.com/Support%20Documents/TechnicalDocs/si2401.pdf
footprint SLAB-SOIC-16-NB_N (SOIC, 16-Leads, Body 9.9x3.9mm, Pitch 1.27mm, IPC Medium Density)
footprint SLAB-SOIC-16-NB_L (SOIC, 16-Leads, Body 9.9x3.9mm, Pitch 1.27mm, IPC High Density)
footprint SLAB-SOIC-16-NB_M (SOIC, 16-Leads, Body 9.9x3.9mm, Pitch 1.27mm, IPC Low Density)
part A pins: 1 PWM (in) "PWM input.", 3 VDDI (power) "Input-side power supply terminal; connect to a source of 4.5 to 5.5 V.", 4 GNDI (power) "Input-side ground terminal.", 5 DISABLE (in) "Device Disable. When high, this input unconditionally drives outputs VOA, VOB LOW. It is strongly recommended that this input be connected to external logic level to avoid erroneous operation due to capacitive noise coupling.", 6 DT (in) "Dead time programming input. The value of the resistor connected from DT to ground sets the dead time between output transitions of VOA and VOB. Defaults to 1 ns dead time when connected to VDDI or left open", 8 VDDI (power) "Input-side power supply terminal; connect to a source of 4.5 to 5.5 V.", 9 GNDB (power) "Ground terminal for Driver B.", 10 VOB (out) "Driver B output (low-side driver).", 11 VDDB (power) "Driver B power supply voltage terminal; connect to a source of 6.5 to 24 V.", 14 GNDA (power) "Ground terminal for Driver A.", 15 VOA (out) "Driver A output (high-side driver).", 16 VDDA (power) "Driver A power supply voltage terminal; connect to a source of 6.5 to 24 V."
part B pins: 2 NC "No connection.", 7 NC "No connection.", 12 NC "No connection.", 13 NC "No connection."

## Si8241BB-B-IS1R
designator U?
Class D Audio Driver with Precision Dead-Time Generator, -40 to 125 degC, 16-pin SOIC, Tape and Reel; Manufacturer: Silicon Labs; PartNumber: Si8241BB-B-IS1R; Drive Strength: 0.5 A; Input Type: PWM; Isolation Rating: 2.5 kV rms; Outputs: High Side / Low Side; UVLO Voltage: 8 V; Sub-Family: Class D Audio Drivers; DatasheetVersion: Rev. 0.3; PackageReference: SOIC-16-NB; PackageDescription: 16-Pin Small-Outline Integrated Circuit, Body 9.9 x 3.9 mm, Pitch 1.27 mm; Supplier 1: Digi-Key; Supplier Part Number 1: SI8241BB-B-IS1R-ND; Supplier 2: Mouser; Supplier Part Number 2: 634-SI8241BB-B-IS1R; Packing: Tape and Reel; Mounting Technology: Surface Mount; Code_JEDEC: MS-012; Code_IPC: J-STD-020; ComponentLink1Description: Manufacturer URL; ComponentLink1URL: http://www.silabs.com/; ComponentLink2Description: Datasheet; ComponentLink2URL: http://www.silabs.com/Support Documents/TechnicalDocs/Si824x.pdf; ComponentLink3Description: Package Specification; ComponentLink3URL: http://www.silabs.com/Support%20Documents/TechnicalDocs/si2401.pdf
footprint SLAB-SOIC-16-NB_N (SOIC, 16-Leads, Body 9.9x3.9mm, Pitch 1.27mm, IPC Medium Density)
footprint SLAB-SOIC-16-NB_L (SOIC, 16-Leads, Body 9.9x3.9mm, Pitch 1.27mm, IPC High Density)
footprint SLAB-SOIC-16-NB_M (SOIC, 16-Leads, Body 9.9x3.9mm, Pitch 1.27mm, IPC Low Density)
part A pins: 1 PWM (in) "PWM input.", 3 VDDI (power) "Input-side power supply terminal; connect to a source of 4.5 to 5.5 V.", 4 GNDI (power) "Input-side ground terminal.", 5 DISABLE (in) "Device Disable. When high, this input unconditionally drives outputs VOA, VOB LOW. It is strongly recommended that this input be connected to external logic level to avoid erroneous operation due to capacitive noise coupling.", 6 DT (in) "Dead time programming input. The value of the resistor connected from DT to ground sets the dead time between output transitions of VOA and VOB. Defaults to 1 ns dead time when connected to VDDI or left open", 8 VDDI (power) "Input-side power supply terminal; connect to a source of 4.5 to 5.5 V.", 9 GNDB (power) "Ground terminal for Driver B.", 10 VOB (out) "Driver B output (low-side driver).", 11 VDDB (power) "Driver B power supply voltage terminal; connect to a source of 6.5 to 24 V.", 14 GNDA (power) "Ground terminal for Driver A.", 15 VOA (out) "Driver A output (high-side driver).", 16 VDDA (power) "Driver A power supply voltage terminal; connect to a source of 6.5 to 24 V."
part B pins: 2 NC "No connection.", 7 NC "No connection.", 12 NC "No connection.", 13 NC "No connection."

## Si8241CB-B-IS1
designator U?
Class D Audio Driver with Precision Dead-Time Generator, -40 to 125 degC, 16-pin SOIC, Tube; Manufacturer: Silicon Labs; PartNumber: Si8241CB-B-IS1; Drive Strength: 0.5 A; Input Type: PWM; Isolation Rating: 2.5 kV rms; Outputs: High Side / Low Side; UVLO Voltage: 10 V; Sub-Family: Class D Audio Drivers; DatasheetVersion: Rev. 0.3; PackageReference: SOIC-16-NB; PackageDescription: 16-Pin Small-Outline Integrated Circuit, Body 9.9 x 3.9 mm, Pitch 1.27 mm; Supplier 1: Digi-Key; Supplier Part Number 1: 336-1998-5-ND; Supplier 2: Mouser; Supplier Part Number 2: 634-SI8241CB-B-IS1; Packing: Tube; Mounting Technology: Surface Mount; Code_JEDEC: MS-012; Code_IPC: J-STD-020; ComponentLink1Description: Manufacturer URL; ComponentLink1URL: http://www.silabs.com/; ComponentLink2Description: Datasheet; ComponentLink2URL: http://www.silabs.com/Support Documents/TechnicalDocs/Si824x.pdf; ComponentLink3Description: Package Specification; ComponentLink3URL: http://www.silabs.com/Support%20Documents/TechnicalDocs/si2401.pdf
footprint SLAB-SOIC-16-NB_N (SOIC, 16-Leads, Body 9.9x3.9mm, Pitch 1.27mm, IPC Medium Density)
footprint SLAB-SOIC-16-NB_L (SOIC, 16-Leads, Body 9.9x3.9mm, Pitch 1.27mm, IPC High Density)
footprint SLAB-SOIC-16-NB_M (SOIC, 16-Leads, Body 9.9x3.9mm, Pitch 1.27mm, IPC Low Density)
part A pins: 1 PWM (in) "PWM input.", 3 VDDI (power) "Input-side power supply terminal; connect to a source of 4.5 to 5.5 V.", 4 GNDI (power) "Input-side ground terminal.", 5 DISABLE (in) "Device Disable. When high, this input unconditionally drives outputs VOA, VOB LOW. It is strongly recommended that this input be connected to external logic level to avoid erroneous operation due to capacitive noise coupling.", 6 DT (in) "Dead time programming input. The value of the resistor connected from DT to ground sets the dead time between output transitions of VOA and VOB. Defaults to 1 ns dead time when connected to VDDI or left open", 8 VDDI (power) "Input-side power supply terminal; connect to a source of 4.5 to 5.5 V.", 9 GNDB (power) "Ground terminal for Driver B.", 10 VOB (out) "Driver B output (low-side driver).", 11 VDDB (power) "Driver B power supply voltage terminal; connect to a source of 6.5 to 24 V.", 14 GNDA (power) "Ground terminal for Driver A.", 15 VOA (out) "Driver A output (high-side driver).", 16 VDDA (power) "Driver A power supply voltage terminal; connect to a source of 6.5 to 24 V."
part B pins: 2 NC "No connection.", 7 NC "No connection.", 12 NC "No connection.", 13 NC "No connection."

## Si8241CB-B-IS1R
designator U?
Class D Audio Driver with Precision Dead-Time Generator, -40 to 125 degC, 16-pin SOIC, Tape and Reel; Manufacturer: Silicon Labs; PartNumber: Si8241CB-B-IS1R; Drive Strength: 0.5 A; Input Type: PWM; Isolation Rating: 2.5 kV rms; Outputs: High Side / Low Side; UVLO Voltage: 10 V; Sub-Family: Class D Audio Drivers; DatasheetVersion: Rev. 0.3; PackageReference: SOIC-16-NB; PackageDescription: 16-Pin Small-Outline Integrated Circuit, Body 9.9 x 3.9 mm, Pitch 1.27 mm; Supplier 1: Digi-Key; Supplier Part Number 1: SI8241CB-B-IS1R-ND; Supplier 2: Mouser; Supplier Part Number 2: 634-SI8241CB-B-IS1R; Packing: Tape and Reel; Mounting Technology: Surface Mount; Code_JEDEC: MS-012; Code_IPC: J-STD-020; ComponentLink1Description: Manufacturer URL; ComponentLink1URL: http://www.silabs.com/; ComponentLink2Description: Datasheet; ComponentLink2URL: http://www.silabs.com/Support Documents/TechnicalDocs/Si824x.pdf; ComponentLink3Description: Package Specification; ComponentLink3URL: http://www.silabs.com/Support%20Documents/TechnicalDocs/si2401.pdf
footprint SLAB-SOIC-16-NB_N (SOIC, 16-Leads, Body 9.9x3.9mm, Pitch 1.27mm, IPC Medium Density)
footprint SLAB-SOIC-16-NB_L (SOIC, 16-Leads, Body 9.9x3.9mm, Pitch 1.27mm, IPC High Density)
footprint SLAB-SOIC-16-NB_M (SOIC, 16-Leads, Body 9.9x3.9mm, Pitch 1.27mm, IPC Low Density)
part A pins: 1 PWM (in) "PWM input.", 3 VDDI (power) "Input-side power supply terminal; connect to a source of 4.5 to 5.5 V.", 4 GNDI (power) "Input-side ground terminal.", 5 DISABLE (in) "Device Disable. When high, this input unconditionally drives outputs VOA, VOB LOW. It is strongly recommended that this input be connected to external logic level to avoid erroneous operation due to capacitive noise coupling.", 6 DT (in) "Dead time programming input. The value of the resistor connected from DT to ground sets the dead time between output transitions of VOA and VOB. Defaults to 1 ns dead time when connected to VDDI or left open", 8 VDDI (power) "Input-side power supply terminal; connect to a source of 4.5 to 5.5 V.", 9 GNDB (power) "Ground terminal for Driver B.", 10 VOB (out) "Driver B output (low-side driver).", 11 VDDB (power) "Driver B power supply voltage terminal; connect to a source of 6.5 to 24 V.", 14 GNDA (power) "Ground terminal for Driver A.", 15 VOA (out) "Driver A output (high-side driver).", 16 VDDA (power) "Driver A power supply voltage terminal; connect to a source of 6.5 to 24 V."
part B pins: 2 NC "No connection.", 7 NC "No connection.", 12 NC "No connection.", 13 NC "No connection."

## Si8244BB-C-IS1
designator U?
Class D Audio Driver with Precision Dead-Time Generator, -40 to 125 degC, 16-pin SOIC, Tube; Manufacturer: Silicon Labs; PartNumber: Si8244BB-C-IS1; Drive Strength: 4 A; Input Type: PWM; Isolation Rating: 2.5 kV rms; Outputs: High Side / Low Side; UVLO Voltage: 8 V; Sub-Family: Class D Audio Drivers; DatasheetVersion: Rev. 0.3; PackageReference: SOIC-16-NB; PackageDescription: 16-Pin Small-Outline Integrated Circuit, Body 9.9 x 3.9 mm, Pitch 1.27 mm; Supplier 1: Digi-Key; Supplier Part Number 1: 336-2001-5-ND; Supplier 2: Mouser; Supplier Part Number 2: 634-SI8244BB-C-IS1; Packing: Tube; Mounting Technology: Surface Mount; Code_JEDEC: MS-012; Code_IPC: J-STD-020; ComponentLink1Description: Manufacturer URL; ComponentLink1URL: http://www.silabs.com/; ComponentLink2Description: Datasheet; ComponentLink2URL: http://www.silabs.com/Support Documents/TechnicalDocs/Si824x.pdf; ComponentLink3Description: Package Specification; ComponentLink3URL: http://www.silabs.com/Support%20Documents/TechnicalDocs/si2401.pdf
footprint SLAB-SOIC-16-NB_N (SOIC, 16-Leads, Body 9.9x3.9mm, Pitch 1.27mm, IPC Medium Density)
footprint SLAB-SOIC-16-NB_L (SOIC, 16-Leads, Body 9.9x3.9mm, Pitch 1.27mm, IPC High Density)
footprint SLAB-SOIC-16-NB_M (SOIC, 16-Leads, Body 9.9x3.9mm, Pitch 1.27mm, IPC Low Density)
part A pins: 1 PWM (in) "PWM input.", 3 VDDI (power) "Input-side power supply terminal; connect to a source of 4.5 to 5.5 V.", 4 GNDI (power) "Input-side ground terminal.", 5 DISABLE (in) "Device Disable. When high, this input unconditionally drives outputs VOA, VOB LOW. It is strongly recommended that this input be connected to external logic level to avoid erroneous operation due to capacitive noise coupling.", 6 DT (in) "Dead time programming input. The value of the resistor connected from DT to ground sets the dead time between output transitions of VOA and VOB. Defaults to 1 ns dead time when connected to VDDI or left open", 8 VDDI (power) "Input-side power supply terminal; connect to a source of 4.5 to 5.5 V.", 9 GNDB (power) "Ground terminal for Driver B.", 10 VOB (out) "Driver B output (low-side driver).", 11 VDDB (power) "Driver B power supply voltage terminal; connect to a source of 6.5 to 24 V.", 14 GNDA (power) "Ground terminal for Driver A.", 15 VOA (out) "Driver A output (high-side driver).", 16 VDDA (power) "Driver A power supply voltage terminal; connect to a source of 6.5 to 24 V."
part B pins: 2 NC "No connection.", 7 NC "No connection.", 12 NC "No connection.", 13 NC "No connection."

## Si8244BB-C-IS1R
designator U?
Class D Audio Driver with Precision Dead-Time Generator, -40 to 125 degC, 16-pin SOIC, Tape and Reel; Manufacturer: Silicon Labs; PartNumber: Si8244BB-C-IS1R; Drive Strength: 4 A; Input Type: PWM; Isolation Rating: 2.5 kV rms; Outputs: High Side / Low Side; UVLO Voltage: 8 V; Sub-Family: Class D Audio Drivers; DatasheetVersion: Rev. 0.3; PackageReference: SOIC-16-NB; PackageDescription: 16-Pin Small-Outline Integrated Circuit, Body 9.9 x 3.9 mm, Pitch 1.27 mm; Supplier 1: Digi-Key; Supplier Part Number 1: SI8244BB-C-IS1R-ND; Supplier 2: Mouser; Supplier Part Number 2: 634-SI8244BB-C-IS1R; Packing: Tape and Reel; Mounting Technology: Surface Mount; Code_JEDEC: MS-012; Code_IPC: J-STD-020; ComponentLink1Description: Manufacturer URL; ComponentLink1URL: http://www.silabs.com/; ComponentLink2Description: Datasheet; ComponentLink2URL: http://www.silabs.com/Support Documents/TechnicalDocs/Si824x.pdf; ComponentLink3Description: Package Specification; ComponentLink3URL: http://www.silabs.com/Support%20Documents/TechnicalDocs/si2401.pdf
footprint SLAB-SOIC-16-NB_N (SOIC, 16-Leads, Body 9.9x3.9mm, Pitch 1.27mm, IPC Medium Density)
footprint SLAB-SOIC-16-NB_L (SOIC, 16-Leads, Body 9.9x3.9mm, Pitch 1.27mm, IPC High Density)
footprint SLAB-SOIC-16-NB_M (SOIC, 16-Leads, Body 9.9x3.9mm, Pitch 1.27mm, IPC Low Density)
part A pins: 1 PWM (in) "PWM input.", 3 VDDI (power) "Input-side power supply terminal; connect to a source of 4.5 to 5.5 V.", 4 GNDI (power) "Input-side ground terminal.", 5 DISABLE (in) "Device Disable. When high, this input unconditionally drives outputs VOA, VOB LOW. It is strongly recommended that this input be connected to external logic level to avoid erroneous operation due to capacitive noise coupling.", 6 DT (in) "Dead time programming input. The value of the resistor connected from DT to ground sets the dead time between output transitions of VOA and VOB. Defaults to 1 ns dead time when connected to VDDI or left open", 8 VDDI (power) "Input-side power supply terminal; connect to a source of 4.5 to 5.5 V.", 9 GNDB (power) "Ground terminal for Driver B.", 10 VOB (out) "Driver B output (low-side driver).", 11 VDDB (power) "Driver B power supply voltage terminal; connect to a source of 6.5 to 24 V.", 14 GNDA (power) "Ground terminal for Driver A.", 15 VOA (out) "Driver A output (high-side driver).", 16 VDDA (power) "Driver A power supply voltage terminal; connect to a source of 6.5 to 24 V."
part B pins: 2 NC "No connection.", 7 NC "No connection.", 12 NC "No connection.", 13 NC "No connection."

## Si8244CB-C-IS1
designator U?
Class D Audio Driver with Precision Dead-Time Generator, -40 to 125 degC, 16-pin SOIC, Tube; Manufacturer: Silicon Labs; PartNumber: Si8244CB-C-IS1; Drive Strength: 4 A; Input Type: PWM; Isolation Rating: 2.5 kV rms; Outputs: High Side / Low Side; UVLO Voltage: 10 V; Sub-Family: Class D Audio Drivers; DatasheetVersion: Rev. 0.3; PackageReference: SOIC-16-NB; PackageDescription: 16-Pin Small-Outline Integrated Circuit, Body 9.9 x 3.9 mm, Pitch 1.27 mm; Supplier 1: Digi-Key; Supplier Part Number 1: 336-2000-5-ND; Supplier 2: Mouser; Supplier Part Number 2: 634-SI8244CB-C-IS1; Packing: Tube; Mounting Technology: Surface Mount; Code_JEDEC: MS-012; Code_IPC: J-STD-020; ComponentLink1Description: Manufacturer URL; ComponentLink1URL: http://www.silabs.com/; ComponentLink2Description: Datasheet; ComponentLink2URL: http://www.silabs.com/Support Documents/TechnicalDocs/Si824x.pdf; ComponentLink3Description: Package Specification; ComponentLink3URL: http://www.silabs.com/Support%20Documents/TechnicalDocs/si2401.pdf
footprint SLAB-SOIC-16-NB_N (SOIC, 16-Leads, Body 9.9x3.9mm, Pitch 1.27mm, IPC Medium Density)
footprint SLAB-SOIC-16-NB_L (SOIC, 16-Leads, Body 9.9x3.9mm, Pitch 1.27mm, IPC High Density)
footprint SLAB-SOIC-16-NB_M (SOIC, 16-Leads, Body 9.9x3.9mm, Pitch 1.27mm, IPC Low Density)
part A pins: 1 PWM (in) "PWM input.", 3 VDDI (power) "Input-side power supply terminal; connect to a source of 4.5 to 5.5 V.", 4 GNDI (power) "Input-side ground terminal.", 5 DISABLE (in) "Device Disable. When high, this input unconditionally drives outputs VOA, VOB LOW. It is strongly recommended that this input be connected to external logic level to avoid erroneous operation due to capacitive noise coupling.", 6 DT (in) "Dead time programming input. The value of the resistor connected from DT to ground sets the dead time between output transitions of VOA and VOB. Defaults to 1 ns dead time when connected to VDDI or left open", 8 VDDI (power) "Input-side power supply terminal; connect to a source of 4.5 to 5.5 V.", 9 GNDB (power) "Ground terminal for Driver B.", 10 VOB (out) "Driver B output (low-side driver).", 11 VDDB (power) "Driver B power supply voltage terminal; connect to a source of 6.5 to 24 V.", 14 GNDA (power) "Ground terminal for Driver A.", 15 VOA (out) "Driver A output (high-side driver).", 16 VDDA (power) "Driver A power supply voltage terminal; connect to a source of 6.5 to 24 V."
part B pins: 2 NC "No connection.", 7 NC "No connection.", 12 NC "No connection.", 13 NC "No connection."